# Altium schematic symbol library 5ConnectorRHS.SchLib: 1 symbol
Pins are listed as number, name and electrical type; pins without a type are passive.

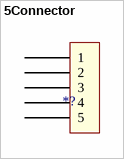
[diagram p0: symbol 5Connector]

## 5Connector
designator *, comment *?
footprint 5Connector
pins: 1, 2, 3, 4, 5